# EAGLE library part MOLEX-KK-396 (library molex kk-396-header)
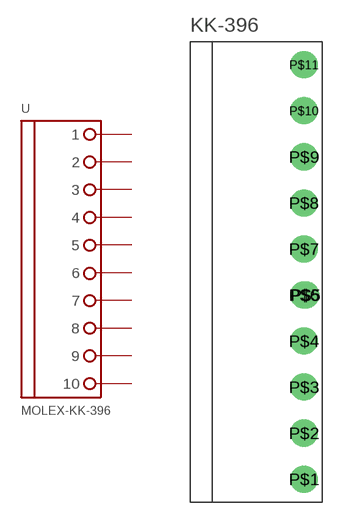
[diagram p0: symbol with the pads of MOLEX-KK-396; footprint MOLEX-KK-396]

Designator prefix -

## MOLEX-KK-396 (MPN: 06-48-1104)  [MOLEX-KK-396]
P$1  1
P$2  2
P$3  3
P$4  4
P$5  5
P$7  6
P$8  7
P$9  8
P$10  9
P$11  10

## Footprint MOLEX-KK-396 (pad centres in mm)
drill 1.56: P$1 9.81,1.99; P$2 9.81,5.97; P$3 9.81,9.95; P$4 9.81,13.93; P$5 9.95,17.91; P$6 9.81,17.91; P$7 9.81,21.89; P$8 9.81,25.87; P$9 9.81,29.85; P$10 9.81,33.83; P$11 9.81,37.81